# Altium schematic symbol library Ethernet Controller GOST.SchLib: 3 symbols
Pins are listed as number, name and electrical type; pins without a type are passive.

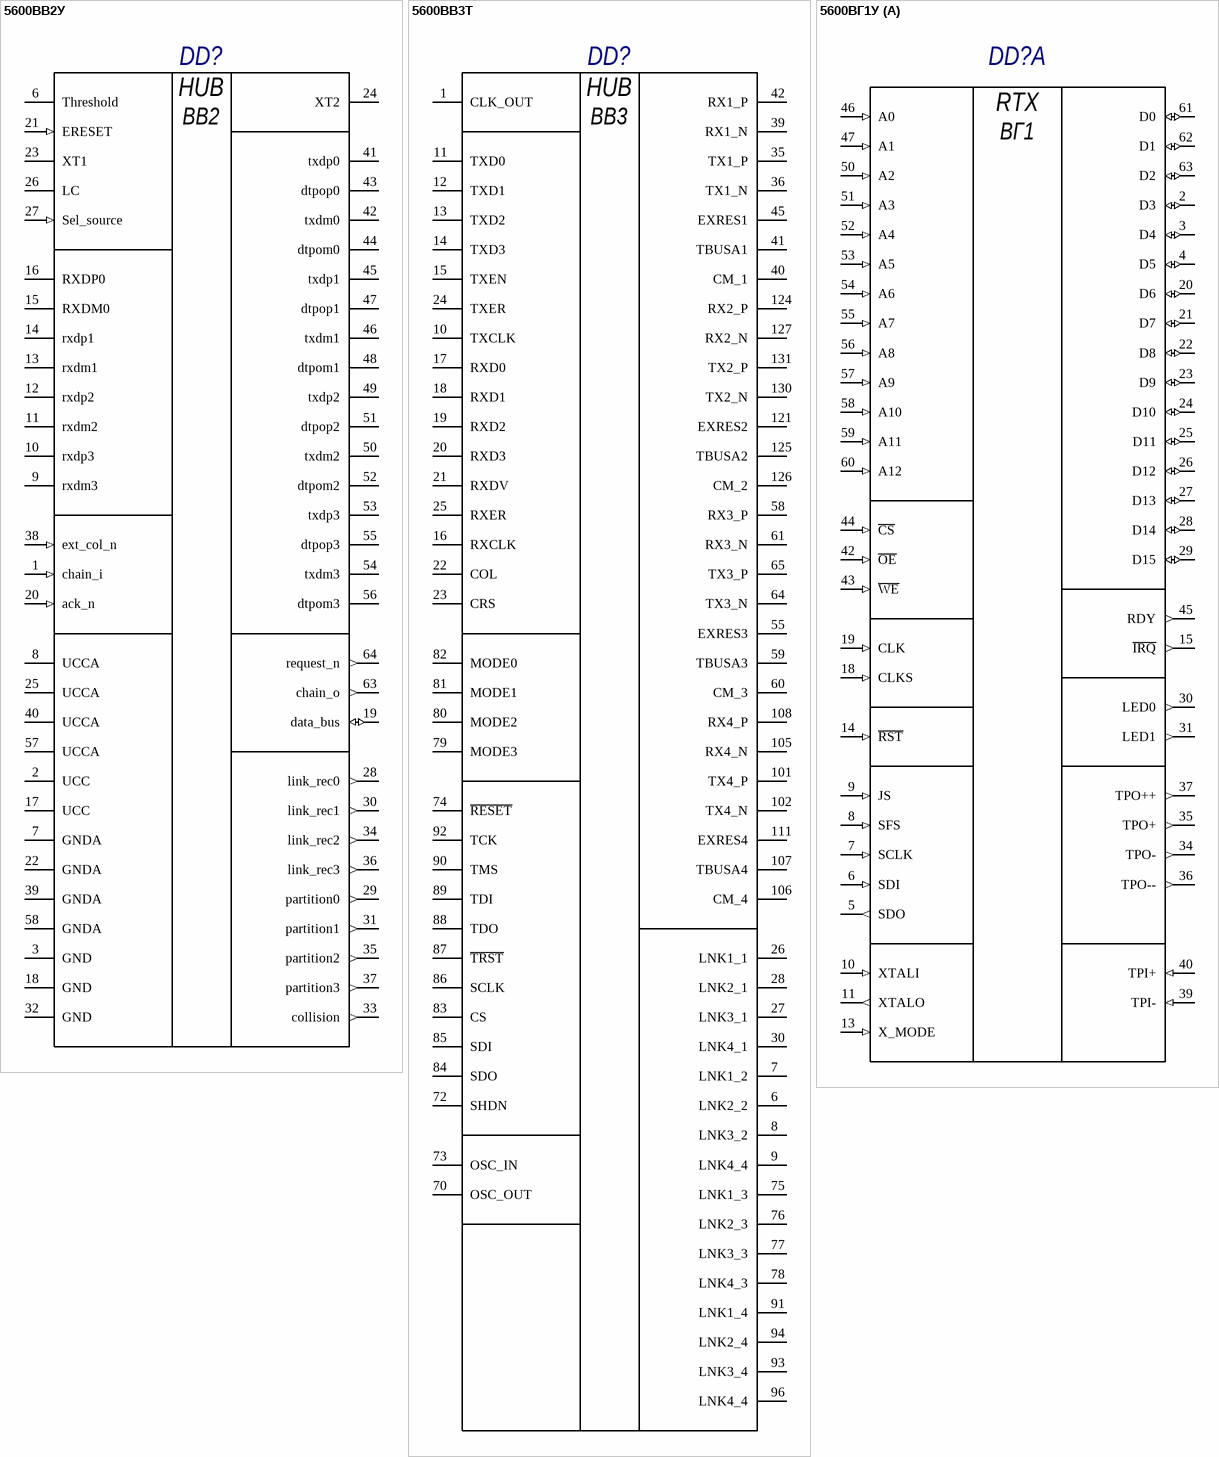
[diagram p0: symbols 5600ВВ2У to 5600ВГ1У]

## 5600ВВ2У
designator DD?
Type: Микросхема; Published: 7.04.2010; Publisher: Viktor Klishin
pins: 1 chain_i (in) "Вход приоритетной схемы арбитра", 2 UCC (power) "Питание цифровое +5 В", 3 GND (power) "Земля цифровая", 6 Threshold "Вход установки порога чувствительности приемников", 7 GNDА (power) "Земля аналоговая приемников", 8 UCCА (power) "Питание аналоговое приемников", 9 rxdm3 "Вход приемника порта 3 отрицательный", 10 rxdp3 "Вход приемника порта 3 положительный", 11 rxdm2 "Вход приемника порта 2 отрицательный", 12 rxdp2 "Вход приемника порта 2 положительный", 13 rxdm1 "Вход приемника порта 1 отрицательный", 14 rxdp1 "Вход приемника порта 1 положительный", 15 RXDM0 "Вход приемника порта 0 отрицательный", 16 RXDP0 "Вход приемника порта 0 положительный", 17 UCC (power) "Питание цифровое +5 В", 18 GND (power) "Земля цифровая", 19 data_bus (io) "Шина данных порта расширения", 20 ack_n (in) "Подтверждение арбитра порта расширения", 21 ERESET (in) "Сброс", 22 GNDА (power) "Земля аналоговая генератора", 23 XT1 "Вход кварцевого резонатора", 24 XT2 "Выход кварцевого резонатора", 25 UCCА (power) "Питание аналоговое генератора", 26 LC "Вывод подключения индуктивности", 27 Sel_source (in) "Отладочный вход генератора", 28 link_rec0 (out) "Вывод индикатора соединение/прием порта 0", 29 partition0 (out) "Вывод индикатора отключения порта 0", 30 link_rec1 (out) "Вывод индикатора соединение/прием порта 1", 31 partition1 (out) "Вывод индикатора отключения канала 1", 32 GND (power) "Земля цифровая", 33 collision (out) "Вывод индикатора наличия коллизий", 34 link_rec2 (out) "Вывод индикатора соединение/прием порта 2", 35 partition2 (out) "Вывод индикатора отключения порта 2", 36 link_rec3 (out) "Вывод индикатора соединение/прием порта 3", 37 partition3 (out) "Вывод индикатора отключения порта 3", 38 ext_col_n (in) "Вход сигнала внешнего конфликта порта расширения", 39 GNDА (power) "Земля аналоговая передатчиков", 40 UCCА (power) "Питание аналоговое передатчиков", 41 txdp0 "Выход передатчика порта 0 положительный", 42 txdm0 "Выход передатчика порта 0 отрицательные", 43 dtpop0 "Выход передатчика порта 0 положительный задержанный", 44 dtpom0 "Выход передатчика порта 0 отрицательный задержанный", 45 txdp1 "Выход передатчика порта 1 положительный", 46 txdm1 "Выход передатчика порта 1 отрицательный", 47 dtpop1 "Выход передатчика порта 1 положительный задержанный", 48 dtpom1 "Выход передатчика порта 1 отрицательный задержанный", 49 txdp2 "Выход передатчика порта 2 положительный", 50 txdm2 "Выход передатчика порта 2 отрицательный", 51 dtpop2 "Выход передатчика порта 2 положительный задержанный", 52 dtpom2 "Выход передатчика порта 2 отрицательный задержанный", 53 txdp3 "Выход передатчика порта 3 положительный", 54 txdm3 "Выход передатчика порта 3 отрицательный", 55 dtpop3 "Выход передатчика порта 3 положительный задержанный", 56 dtpom3 "Выход передатчика порта 3 отрицательный задержанный", 57 UCCА (power) "Питание аналоговое передатчиков", 58 GNDА (power) "Земля аналоговая передатчиков", 63 chain_o (out) "Выход приоритетной схемы арбитража порта расширения", 64 request_n (out) "Выход запроса шины порта расширения"
text: HUB; ВВ2

## 5600ВВ3Т
designator DD?
Type: Микросхема; Published: 16.06.2014; Publisher: Andrew Danich
pins: 1 CLK_OUT "Выход опорного синхросигнала", 2 DVcc (power) hidden to +3.3В "Питание цифровой части +1.8В", 3 Vcc (power) hidden to +3.3В "Питание цифровой части +3.3В", 4 GND (power) hidden to Общ "Общий цифровой части", 5 GND (power) hidden to Общ "Общий цифровой части", 6 LNK2_2 "Выходы сигналов индикации", 7 LNK1_2 "Выходы сигналов индикации", 8 LNK3_2 "Выходы сигналов индикации", 9 LNK4_4 "Выходы сигналов индикации", 10 TXCLK "MII", 11 TXD0 "MII", 12 TXD1 "MII", 13 TXD2 "MII", 14 TXD3 "MII", 15 TXEN "MII", 16 RXCLK "MII", 17 RXD0 "MII", 18 RXD1 "MII", 19 RXD2 "MII", 20 RXD3 "MII", 21 RXDV "MII", 22 COL "MII", 23 CRS "MII", 24 TXER "MII", 25 RXER "MII", 26 LNK1_1 "Выходы сигналов индикации", 27 LNK3_1 "Выходы сигналов индикации", 28 LNK2_1 "Выходы сигналов индикации", 29 Vcc (power) hidden to +3.3В "Питание цифровой части +3.3В", 30 LNK4_1 "Выходы сигналов индикации", 31 GND (power) hidden to Общ "Общий цифровой части", 32 DVcc (power) hidden to +3.3В "Питание цифровой части +1.8В", 33 GND (power) hidden to Общ "Общий цифровой части", 34 GNDА1 (power) hidden to Общ "Общий приемопередатчиков", 35 TX1_P, 36 TX1_N, 37 Vcca1 (power) hidden to PHY1 "Питание приемопередатчиков +3.3В", 38 GNDА1 (power) hidden to Общ "Общий приемопередатчиков", 39 RX1_N, 40 CM_1, 41 TBUSA1, 42 RX1_P, 43 Vcca1 (power) hidden to PHY1 "Питание приемопередатчиков +3.3В", 44 GNDА1 (power) hidden to Общ "Общий приемопередатчиков", 45 EXRES1, 46 GNDА1 (power) hidden to Общ "Общий приемопередатчиков", 47 Vcca1 (power) hidden to PHY1 "Питание приемопередатчиков +3.3В", 48 GNDА1 (power) hidden to Общ "Общий приемопередатчиков", 49 Vcca1 (power) hidden to PHY1 "Питание приемопередатчиков +3.3В", 50 GND (power) hidden to Общ "Общий цифровой части", 51 Vcca3 (power) hidden to PHY3 "Питание приемопередатчиков +3.3В", 52 GNDА3 (power) hidden to Общ "Общий приемопередатчиков", 53 Vcca3 (power) hidden to PHY3 "Питание приемопередатчиков +3.3В", 54 GNDА3 (power) hidden to Общ "Общий приемопередатчиков", 55 EXRES3, 56 Vcca3 (power) hidden to PHY3 "Питание приемопередатчиков +3.3В", 57 GNDА3 (power) hidden to Общ "Общий приемопередатчиков", 58 RX3_P, 59 TBUSA3, 60 CM_3, 61 RX3_N, 62 GNDА3 (power) hidden to Общ "Общий приемопередатчиков", 63 Vcca3 (power) hidden to PHY3 "Питание приемопередатчиков +3.3В", 64 TX3_N, 65 TX3_P, 66 GNDА3 (power) hidden to Общ "Общий приемопередатчиков", 67 Vcc (power) hidden to +3.3В "Питание цифровой части +3.3В", 68 GND (power) hidden to Общ "Общий цифровой части", 69 DVcc (power) hidden to +3.3В "Питание цифровой части +1.8В", 70 OSC_OUT "Выход для подключения кварцевого резонатора", 71 GND (power) hidden to Общ "Общий цифровой части", 72 SHDN, 73 OSC_IN "Вход подключения внешнего генератора", 74 ~{RESET} "Сброс", 75 LNK1_3 "Выходы сигналов индикации", 76 LNK2_3 "Выходы сигналов индикации", 77 LNK3_3 "Выходы сигналов индикации", 78 LNK4_3 "Выходы сигналов индикации", 79 MODE3, 80 MODE2, 81 MODE1, 82 MODE0, 83 СS, 84 SDO, 85 SDI, 86 SCLK, 87 ~{TRST}, 88 TDO, 89 TDI, 90 TMS, 91 LNK1_4 "Выходы сигналов индикации", 92 TCK, 93 LNK3_4 "Выходы сигналов индикации", 94 LNK2_4 "Выходы сигналов индикации", 95 Vcc (power) hidden to +3.3В "Питание цифровой части +3.3В", 96 LNK4_4 "Выходы сигналов индикации", 97 GND (power) hidden to Общ "Общий цифровой части", 98 DVcc (power) hidden to +3.3В "Питание цифровой части +1.8В", 99 GND (power) hidden to Общ "Общий цифровой части", 100 GNDА4 (power) hidden to Общ "Общий приемопередатчиков", 101 TX4_P, 102 TX4_N, 103 Vcca4 (power) hidden to PHY4 "Питание приемопередатчиков +3.3В", 104 GNDА4 (power) hidden to Общ "Общий приемопередатчиков", 105 RX4_N, 106 CM_4, 107 TBUSA4, 108 RX4_P, 109 Vcca4 (power) hidden to PHY4 "Питание приемопередатчиков +3.3В", 110 GNDА4 (power) hidden to Общ "Общий приемопередатчиков", 111 EXRES4, 112 GNDА4 (power) hidden to Общ "Общий приемопередатчиков", 113 Vcca4 (power) hidden to PHY4 "Питание приемопередатчиков +3.3В", 114 GNDА4 (power) hidden to Общ "Общий приемопередатчиков", 115 Vcca4 (power) hidden to PHY4 "Питание приемопередатчиков +3.3В", 116 GND (power) hidden to Общ "Общий цифровой части", 117 Vcca2 (power) hidden to PHY2 "Питание приемопередатчиков +3.3В", 118 GNDА2 (power) hidden to Общ "Общий приемопередатчиков", 119 Vcca2 (power) hidden to PHY2 "Питание приемопередатчиков +3.3В", 120 GNDА2 (power) hidden to Общ "Общий приемопередатчиков", 121 EXRES2, 122 GNDА2 (power) hidden to Общ "Общий приемопередатчиков", 123 Vcca2 (power) hidden to PHY2 "Питание приемопередатчиков +3.3В", 124 RX2_P, 125 TBUSA2, 126 CM_2, 127 RX2_N, 128 GNDА2 (power) hidden to Общ "Общий приемопередатчиков", 129 Vcca2 (power) hidden to PHY2 "Питание приемопередатчиков +3.3В", 130 TX2_N, 131 TX2_P, 132 GNDА2 (power) hidden to Общ "Общий приемопередатчиков"
text: HUB; ВВ3

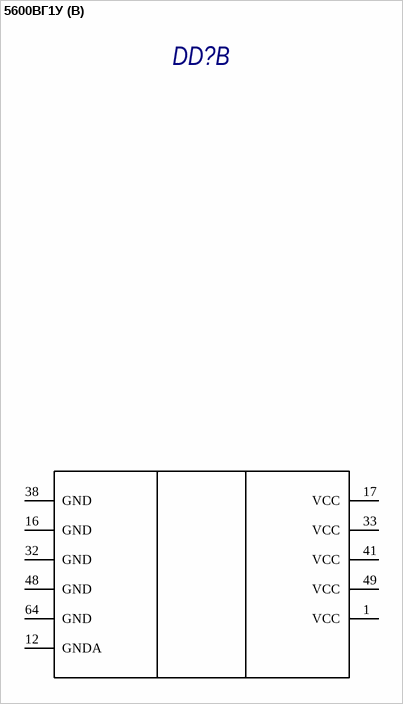
[diagram p1: symbol 5600ВГ1У]

## 5600ВГ1У
designator DD?
Type: Микросхема; Published: 13.04.2016; Publisher: Andrew Danich
part A pins: 2 D3 (io), 3 D4 (io), 4 D5 (io), 5 SDO (out), 6 SDI (in), 7 SCLK (in), 8 SFS (in), 9 JS (in), 10 XTALI (in), 11 XTALO (out), 13 X_MODE (in), 14 ~{RST} (in), 15 ~{IRQ} (out), 18 CLKS (in), 19 CLK (in), 20 D6 (io), 21 D7 (io), 22 D8 (io), 23 D9 (io), 24 D10 (io), 25 D11 (io), 26 D12 (io), 27 D13 (io), 28 D14 (io), 29 D15 (io), 30 LED0 (out), 31 LED1 (out), 34 TPO- (out), 35 TPO+ (out), 36 TPO-- (out), 37 TPO++ (out), 39 TPI- (in), 40 TPI+ (in), 42 ~{OE} (in), 43 ~{WE} (in), 44 ~{CS} (in), 45 RDY (out), 46 A0 (in), 47 A1 (in), 50 A2 (in), 51 A3 (in), 52 A4 (in), 53 A5 (in), 54 A6 (in), 55 A7 (in), 56 A8 (in), 57 A9 (in), 58 A10 (in), 59 A11 (in), 60 A12 (in), 61 D0 (io), 62 D1 (io), 63 D2 (io)
part B pins: 1 VCC, 12 GNDA, 16 GND, 17 VCC, 32 GND, 33 VCC, 38 GND, 41 VCC, 48 GND, 49 VCC, 64 GND
part A text: RTX; ВГ1